# Altium integrated library Linear Technology PMIC-Switching Reg LTC1174-LTC3901.IntLib: 2647 symbols (part 114 of 310)
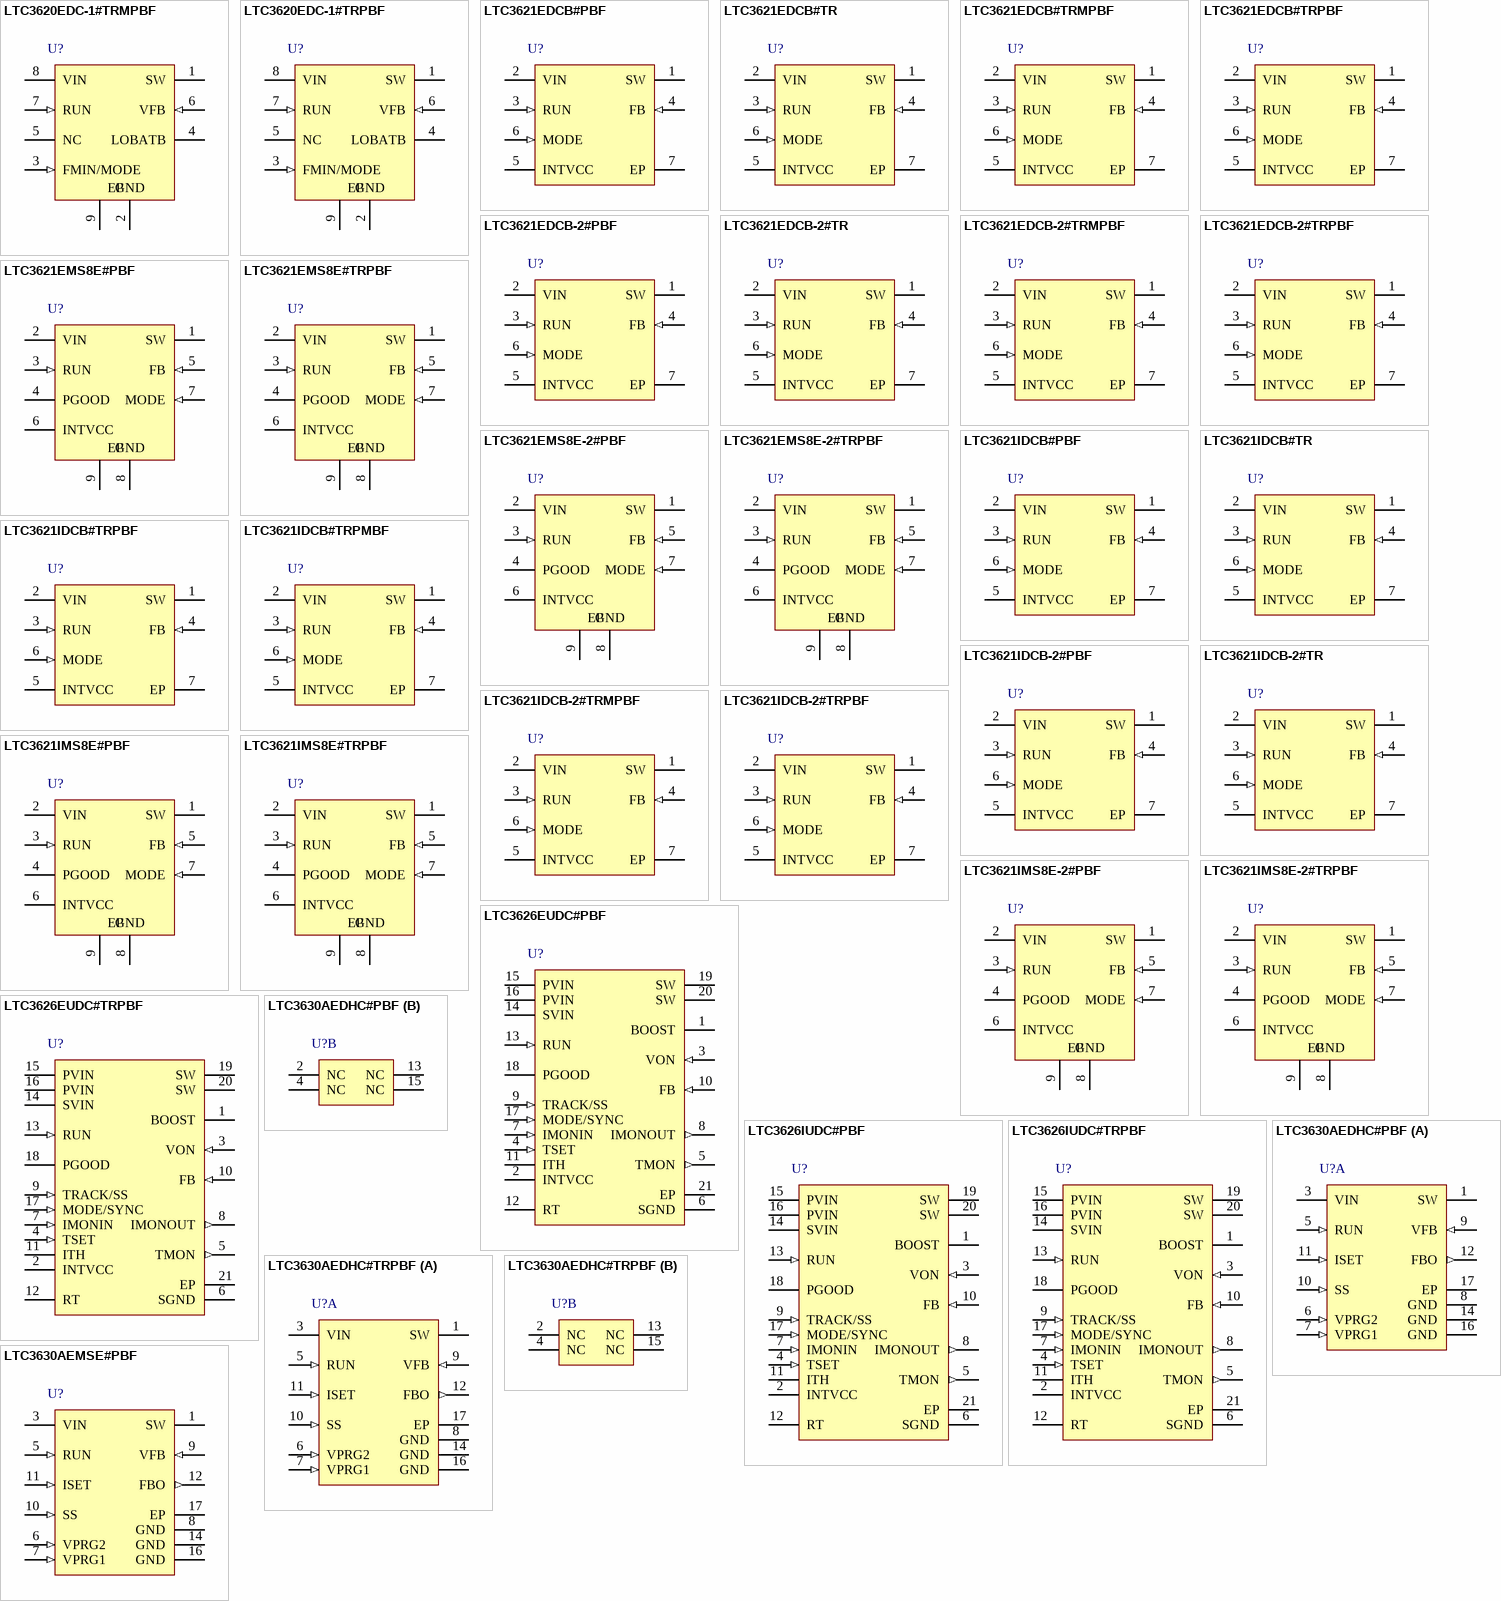
[diagram p281: symbols LTC3620EDC-1#TRMPBF to LTC3630AEMSE#PBF]

## LTC3621EMS8E#PBF
designator U?
1 A Synchronous Step-Down Regulator with 3.5 uA Quiescent Current, 8-pin SOP (MS8E-8), -40 to 125 degC, Pb-Free; Manufacturer: Linear Technology; PartNumber: LTC3621EMS8E#PBF; Number of Outputs: 1; PackageReference: MS8E-8; PackageDescription: 8-Pin Plastic MSOP, Exposed Die Pad, Body 3 x 3 mm, Pitch 0.65 mm; Supplier 1: Digi-Key; Supplier Part Number 1: LTC3621EMS8E#PBF-ND; RoHS: TRUE
footprint LT-MS8E-8-1880X1680TP_N (SOP, 8-Leads, Body 3.1x3.1mm, Pitch 0.65mm, Thermal Pad 1.88x1.68mm, IPC Medium Density)
footprint LT-MS8E-8-1880X1680TP_L (SOP, 8-Leads, Body 3.1x3.1mm, Pitch 0.65mm, Thermal Pad 1.88x1.68mm, IPC High Density)
footprint LT-MS8E-8-1880X1680TP_M (SOP, 8-Leads, Body 3.1x3.1mm, Pitch 0.65mm, Thermal Pad 1.88x1.68mm, IPC Low Density)
pins: 1 SW (power) "Switch Node Connection to the Inductor of the Step-Down Regulator.", 2 VIN (power) "Input Voltage of the Step-Down Regulator", 3 RUN (in) "Logic Controlled RUN Input. Do not leave this pin floating. Logic high activates the step-down regulator.", 4 PGOOD (oc) "VOUT within Regulation Indicator.", 5 FB (in) "Feedback Input to the Error Amplifier of the Step-Down Regulator. Connect a resistor divider tap to this pin.", 6 INTVCC (power) "Low Dropout Regulator. Bypass with at least 1uF to Ground.", 7 MODE (in) "Burst Mode Select of the Step-Down Regulator. Tie MODE to INTVCC for Burst Mode operation with a 400mA peak current clamp, tie MODE to GND for pulse skipping operation, and tie MODE to a voltage between 1V and VINTVCC - 1V (See Datasheet)", 8 SGND (power) "Signal Ground.", 9 EP (power) "Ground Backplane for Power and Signal Ground. Must be soldered to PCB ground."
text: GND

## LTC3621EMS8E#TRPBF
designator U?
1 A Synchronous Step-Down Regulator with 3.5 uA Quiescent Current, 8-pin SOP (MS8E-8), -40 to 125 degC, Pb-Free, Tape and Reel; Manufacturer: Linear Technology; PartNumber: LTC3621EMS8E#TRPBF; Number of Outputs: 1; PackageReference: MS8E-8; PackageDescription: 8-Pin Plastic MSOP, Exposed Die Pad, Body 3 x 3 mm, Pitch 0.65 mm; Supplier 1: Digi-Key; Supplier Part Number 1: LTC3621EMS8E#TRPBF-ND; RoHS: TRUE
footprint LT-MS8E-8-1880X1680TP_N (SOP, 8-Leads, Body 3.1x3.1mm, Pitch 0.65mm, Thermal Pad 1.88x1.68mm, IPC Medium Density)
footprint LT-MS8E-8-1880X1680TP_L (SOP, 8-Leads, Body 3.1x3.1mm, Pitch 0.65mm, Thermal Pad 1.88x1.68mm, IPC High Density)
footprint LT-MS8E-8-1880X1680TP_M (SOP, 8-Leads, Body 3.1x3.1mm, Pitch 0.65mm, Thermal Pad 1.88x1.68mm, IPC Low Density)
pins: 1 SW (power) "Switch Node Connection to the Inductor of the Step-Down Regulator.", 2 VIN (power) "Input Voltage of the Step-Down Regulator", 3 RUN (in) "Logic Controlled RUN Input. Do not leave this pin floating. Logic high activates the step-down regulator.", 4 PGOOD (oc) "VOUT within Regulation Indicator.", 5 FB (in) "Feedback Input to the Error Amplifier of the Step-Down Regulator. Connect a resistor divider tap to this pin.", 6 INTVCC (power) "Low Dropout Regulator. Bypass with at least 1uF to Ground.", 7 MODE (in) "Burst Mode Select of the Step-Down Regulator. Tie MODE to INTVCC for Burst Mode operation with a 400mA peak current clamp, tie MODE to GND for pulse skipping operation, and tie MODE to a voltage between 1V and VINTVCC - 1V (See Datasheet)", 8 SGND (power) "Signal Ground.", 9 EP (power) "Ground Backplane for Power and Signal Ground. Must be soldered to PCB ground."
text: GND